# Altium schematic symbol library MP008513.SchLib: 1 symbol
Pins are listed as number, name and electrical type; pins without a type are passive.

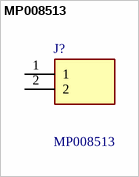
[diagram p0: symbol MP008513]

## MP008513
designator J?
TB, WIRE TO BRD, R/A, 2WAY, 18AWG; Manufacturer_Name: Multicomp Pro; Geometry.Height: 8.6mm; Farnell Part Number: *; Farnell Price/Stock: *; Manufacturer_Part_Number: MP008513; Datasheet Link: *
footprint MP008513
pins: 1, 2